# Altium footprint library GOSTPowerTransducer.PcbLib: 4 footprints
Each footprint in its own frame and in the unit in brackets; x right, y up, seen from the top. Pads: shape width x height; smd on the part's side, far side on the other; paste and mask are expansions set on the pad; w line width, h text height; cw(c..) or ccw(c..) is an arc to the next point about the centre after c.
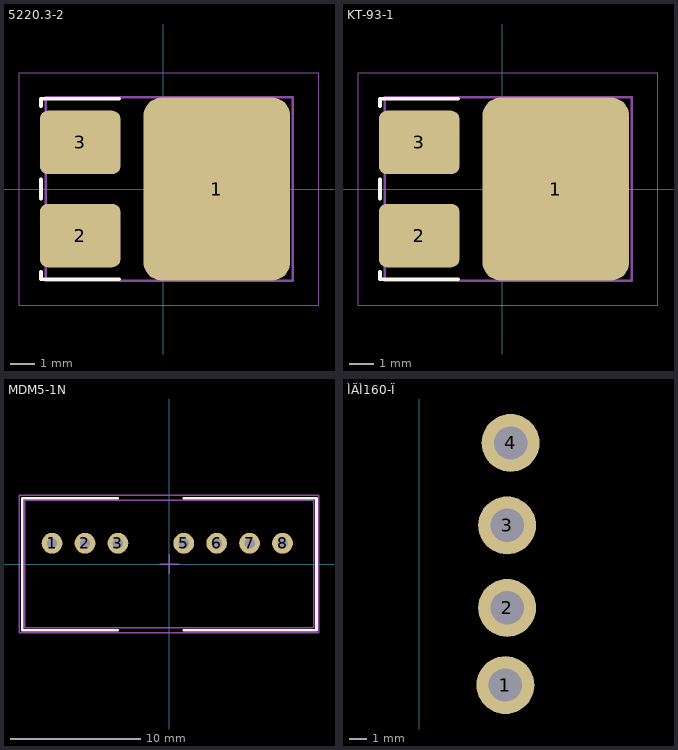
[diagram p0: the footprints below, top view; thin cyan lines are the x and y axes]

## 5220.3-2 [mm] "DFN, 3-Leads, Body 7,50x10,10mm, Pitch 4,95mm, IPC Medium Density"
height 3.05
pads (3):
  rrect25% 6x7.5 smd paste-10 mask+0.1: 1(2.2,0)
  rrect25% 3.3x2.6 smd paste-0.025 mask+0.1: 2(-3.4,-1.905) 3(-3.4,1.905)
Top Overlay:
  lines w0.15: -5,-3.4 -5,-3.7 -1.8,-3.7 ; -5,-0.4 -5,0.4 ; -5,3.4 -5,3.7 -1.8,3.7
Top Paste:
  rectangle: -0.65,-0.6 0.55,0.6
  rectangle: -0.65,0.9 0.55,2.1
  rectangle: -0.65,2.4 0.55,3.6
  region: 0.85,0.6 0.85,-0.6 2.05,-0.6 2.05,0.6
  region: 3.85,0.6 3.85,-0.6 5.05,-0.6 5.05,0.6
  region: 2.35,0.6 2.35,-0.6 3.55,-0.6 3.55,0.6
  region: 2.35,2.1 2.35,0.9 3.55,0.9 3.55,2.1
  region: 3.85,2.1 3.85,0.9 5.05,0.9 5.05,2.1
  region: 0.85,2.1 0.85,0.9 2.05,0.9 2.05,2.1
  region: 2.35,3.6 2.35,2.4 3.55,2.4 3.55,3.6
  region: 3.85,3.6 3.85,2.4 5.05,2.4 5.05,3.6
  region: 0.85,3.6 0.85,2.4 2.05,2.4 2.05,3.6
  region: 3.55,-3.6 3.55,-2.4 2.35,-2.4 2.35,-3.6
  region: 0.55,-3.6 0.55,-2.4 -0.65,-2.4 -0.65,-3.6
  region: 2.05,-3.6 2.05,-2.4 0.85,-2.4 0.85,-3.6
  region: 3.55,-2.1 3.55,-0.9 2.35,-0.9 2.35,-2.1
  region: 0.55,-2.1 0.55,-0.9 -0.65,-0.9 -0.65,-2.1
  region: 2.05,-2.1 2.05,-0.9 0.85,-0.9 0.85,-2.1
  region: 5.05,-2.4 3.85,-2.4 3.85,-3.6 5.05,-3.6
  region: 5.05,-0.9 3.85,-0.9 3.85,-2.1 5.05,-2.1
  lines w0.1: -0.65,-3.6 0.55,-3.6 0.55,-2.4 -0.65,-2.4 -0.65,-3.6 ; -0.65,-2.1 0.55,-2.1 0.55,-0.9 -0.65,-0.9 -0.65,-2.1 ; -0.65,-0.6 0.55,-0.6 0.55,0.6 -0.65,0.6 -0.65,-0.6 ; -0.65,0.9 -0.65,2.1 0.55,2.1 0.55,0.9 -0.65,0.9 ; -0.65,2.4 0.55,2.4 0.55,3.6 -0.65,3.6 -0.65,2.4 ; 0.85,-3.6 0.85,-2.4 2.05,-2.4 2.05,-3.6 0.85,-3.6 ; 0.85,-2.1 0.85,-0.9 2.05,-0.9 2.05,-2.1 0.85,-2.1 ; 0.85,-0.6 2.05,-0.6 2.05,0.6 0.85,0.6 0.85,-0.6 ; 0.85,0.9 0.85,2.1 2.05,2.1 2.05,0.9 0.85,0.9 ; 0.85,2.4 0.85,3.6 2.05,3.6 2.05,2.4 0.85,2.4 ; 2.35,-3.6 3.55,-3.6 3.55,-2.4 2.35,-2.4 2.35,-3.6 ; 2.35,-2.1 3.55,-2.1 3.55,-0.9 2.35,-0.9 2.35,-2.1 ; 2.35,-0.6 2.35,0.6 3.55,0.6 3.55,-0.6 2.35,-0.6 ; 2.35,0.9 3.55,0.9 3.55,2.1 2.35,2.1 2.35,0.9 ; 2.35,2.4 3.55,2.4 3.55,3.6 2.35,3.6 2.35,2.4 ; 3.85,-3.6 5.05,-3.6 5.05,-2.4 3.85,-2.4 3.85,-3.6 ; 3.85,-2.1 3.85,-0.9 5.05,-0.9 5.05,-2.1 3.85,-2.1 ; 3.85,-0.6 5.05,-0.6 5.05,0.6 3.85,0.6 3.85,-0.6 ; 3.85,0.9 3.85,2.1 5.05,2.1 5.05,0.9 3.85,0.9 ; 3.85,2.4 3.85,3.6 5.05,3.6 5.05,2.4 3.85,2.4
Mechanical 6:
  text ".Comment" at -1.595,-5.204 h1.2
Mechanical 9:
  text ".Designator" at -2.394,4.416 h1.5
Mechanical 11:
  circle w0.5: c4.325,2.95 r0.25
  lines w0.1: -4.8,-3.75 5.3,-3.75 5.3,3.75 -4.8,3.75 -4.8,-3.75
Mechanical 15:
  lines w0.05: -5.9,4.75 -5.9,-4.75 6.38,-4.75 6.38,4.75 ; -5.899,4.75 6.375,4.75
  lines w0.1: -0.5,0 0.5,0 ; 0,-0.5 0,0.5
3D body "User Library-KT-93-1.step": height 3, standoff 0, extent -5.05,-3.75 5.05,3.75

## KT-93-1 [mm]
height 3.05
pads (3):
  rrect25% 6x7.5 smd paste-10 mask+0.1: 1(2.2,0)
  rrect25% 3.3x2.6 smd paste-0.025 mask+0.1: 2(-3.4,-1.905) 3(-3.4,1.905)
Top Overlay:
  lines w0.15: -5,-3.4 -5,-3.7 -1.8,-3.7 ; -5,-0.4 -5,0.4 ; -5,3.4 -5,3.7 -1.8,3.7
Top Paste:
  region: 5.05,-0.9 3.85,-0.9 3.85,-2.1 5.05,-2.1
  region: 5.05,-2.4 3.85,-2.4 3.85,-3.6 5.05,-3.6
  region: 2.05,-2.1 2.05,-0.9 0.85,-0.9 0.85,-2.1
  region: 0.55,-2.1 0.55,-0.9 -0.65,-0.9 -0.65,-2.1
  region: 3.55,-2.1 3.55,-0.9 2.35,-0.9 2.35,-2.1
  region: 2.05,-3.6 2.05,-2.4 0.85,-2.4 0.85,-3.6
  region: 0.55,-3.6 0.55,-2.4 -0.65,-2.4 -0.65,-3.6
  region: 3.55,-3.6 3.55,-2.4 2.35,-2.4 2.35,-3.6
  region: 0.85,3.6 0.85,2.4 2.05,2.4 2.05,3.6
  region: 3.85,3.6 3.85,2.4 5.05,2.4 5.05,3.6
  region: 2.35,3.6 2.35,2.4 3.55,2.4 3.55,3.6
  region: 0.85,2.1 0.85,0.9 2.05,0.9 2.05,2.1
  region: 3.85,2.1 3.85,0.9 5.05,0.9 5.05,2.1
  region: 2.35,2.1 2.35,0.9 3.55,0.9 3.55,2.1
  region: 2.35,0.6 2.35,-0.6 3.55,-0.6 3.55,0.6
  region: 3.85,0.6 3.85,-0.6 5.05,-0.6 5.05,0.6
  region: 0.85,0.6 0.85,-0.6 2.05,-0.6 2.05,0.6
  rectangle: -0.65,2.4 0.55,3.6
  rectangle: -0.65,0.9 0.55,2.1
  rectangle: -0.65,-0.6 0.55,0.6
  lines w0.1: -0.65,-3.6 -0.65,-2.4 0.55,-2.4 0.55,-3.6 -0.65,-3.6 ; -0.65,-2.1 -0.65,-0.9 0.55,-0.9 0.55,-2.1 -0.65,-2.1 ; -0.65,-0.6 -0.65,0.6 0.55,0.6 0.55,-0.6 -0.65,-0.6 ; -0.65,0.9 0.55,0.9 0.55,2.1 -0.65,2.1 -0.65,0.9 ; -0.65,2.4 -0.65,3.6 0.55,3.6 0.55,2.4 -0.65,2.4 ; 0.85,-3.6 2.05,-3.6 2.05,-2.4 0.85,-2.4 0.85,-3.6 ; 0.85,-2.1 2.05,-2.1 2.05,-0.9 0.85,-0.9 0.85,-2.1 ; 0.85,-0.6 0.85,0.6 2.05,0.6 2.05,-0.6 0.85,-0.6 ; 0.85,0.9 2.05,0.9 2.05,2.1 0.85,2.1 0.85,0.9 ; 0.85,2.4 2.05,2.4 2.05,3.6 0.85,3.6 0.85,2.4 ; 2.35,-3.6 2.35,-2.4 3.55,-2.4 3.55,-3.6 2.35,-3.6 ; 2.35,-2.1 2.35,-0.9 3.55,-0.9 3.55,-2.1 2.35,-2.1 ; 2.35,-0.6 3.55,-0.6 3.55,0.6 2.35,0.6 2.35,-0.6 ; 2.35,0.9 2.35,2.1 3.55,2.1 3.55,0.9 2.35,0.9 ; 2.35,2.4 2.35,3.6 3.55,3.6 3.55,2.4 2.35,2.4 ; 3.85,-3.6 3.85,-2.4 5.05,-2.4 5.05,-3.6 3.85,-3.6 ; 3.85,-2.1 5.05,-2.1 5.05,-0.9 3.85,-0.9 3.85,-2.1 ; 3.85,-0.6 3.85,0.6 5.05,0.6 5.05,-0.6 3.85,-0.6 ; 3.85,0.9 5.05,0.9 5.05,2.1 3.85,2.1 3.85,0.9 ; 3.85,2.4 5.05,2.4 5.05,3.6 3.85,3.6 3.85,2.4
Mechanical 6:
  text ".Comment" at -1.595,-5.204 h1.2
Mechanical 9:
  text ".Designator" at -2.394,4.416 h1.5
Mechanical 11:
  circle w0.5: c4.325,2.95 r0.25
  lines w0.1: -4.8,-3.75 -4.8,3.75 5.3,3.75 5.3,-3.75 -4.8,-3.75
Mechanical 15:
  lines w0.05: -5.9,4.75 -5.9,-4.75 6.38,-4.75 6.38,4.75 ; -5.899,4.75 6.375,4.75
  lines w0.1: -0.5,0 0.5,0 ; 0,-0.5 0,0.5
3D body "User Library-KT-93-1.step": height 3, standoff 0, extent -5.05,-3.75 5.05,3.75

## MDM5-1N [mm]
pads (7):
  round 1.6 hole 0.8: 1(-9.05,1.6) 2(-6.51,1.6) 3(-3.97,1.6) 5(1.11,1.6) 6(3.65,1.6) 7(6.19,1.6) 8(8.73,1.6)
Top Overlay:
  lines w0.2: -3.999,-5.1 -11.35,-5.1 -11.35,5.087 -3.999,5.087 ; 1.11,-5.1 11.35,-5.1 11.35,5.087 1.11,5.087
Mechanical 7:
  lines w0.1: -11.15,-4.9 11.15,-4.9 11.15,4.9 -11.15,4.9 -11.15,-4.9
Mechanical 9:
  text ".Designator" at -6.075,7.95 h3.5
Mechanical 10:
  text ".Comment" at -3.075,5.775 h2
Mechanical 15:
  lines w0.1: -0.75,0 0.75,0 ; 0,-0.75 0,0.75 ; -11.6,-5.3 -11.6,5.3 11.544,5.3 11.544,-5.3 -11.6,-5.3
3D body: height 12.3, standoff 11.3, extent -9.541,1.102 -8.55,2.098
3D body "mdm2(3,5)-n.stp": height 12.2, standoff -3.4, extent -11.15,-4.9 11.15,4.9

## ÌÄÌ160-Ï [mm] "DC/DC ïðåîáðàçîâàòåëè ÀÅÄÎÍ"
pads (4):
  round 3.3 hole 1.9: 1(4.9,8.1) 2(5,12.5) 3(5,17.2) 4(5.2,21.9)